# Altium footprint library INDC2016X95N.PcbLib: 1 footprints
Each footprint in its own frame and in the unit in brackets; x right, y up, seen from the top. Pads: shape width x height; smd on the part's side, far side on the other; paste and mask are expansions set on the pad; w line width, h text height; cw(c..) or ccw(c..) is an arc to the next point about the centre after c.
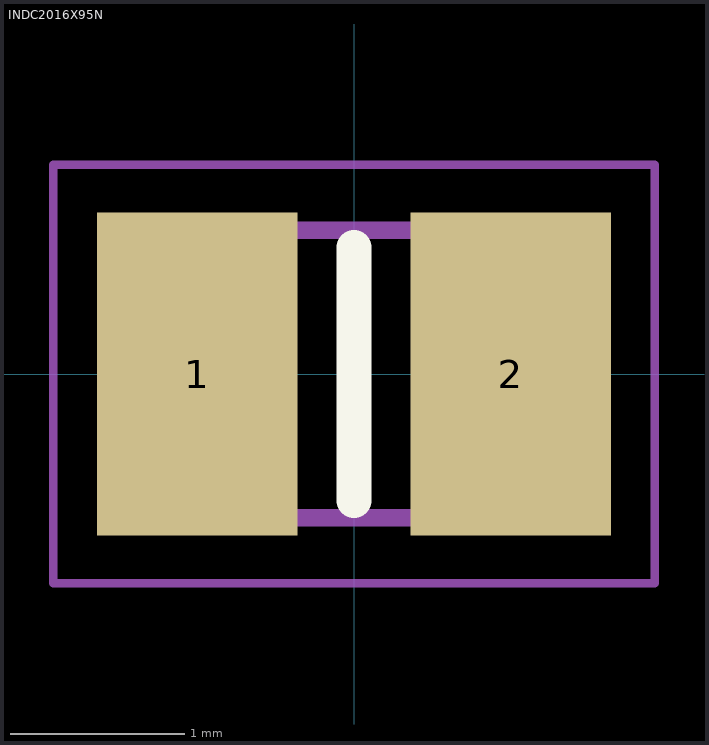
[diagram p0: the footprint, top view; thin cyan lines are the x and y axes]

## INDC2016X95N [mm]
pads (2):
  rect 1.15x1.85 smd: 1(-0.9,0) 2(0.9,0)
Top Overlay:
  lines w0.2: 0,-0.725 0,0.725
Mechanical 15:
  lines w0.1: -1.025,-0.825 1.025,-0.825 1.025,0.825 -1.025,0.825 -1.025,-0.825
Mechanical 20:
  lines w0.05: -1.725,-1.2 1.725,-1.2 1.725,1.2 -1.725,1.2 -1.725,-1.2